# Altium footprint library SW_BTN.PcbLib: 9 footprints
Each footprint in its own frame and in the unit in brackets; x right, y up, seen from the top. Pads: shape width x height; smd on the part's side, far side on the other; paste and mask are expansions set on the pad; w line width, h text height; cw(c..) or ccw(c..) is an arc to the next point about the centre after c.
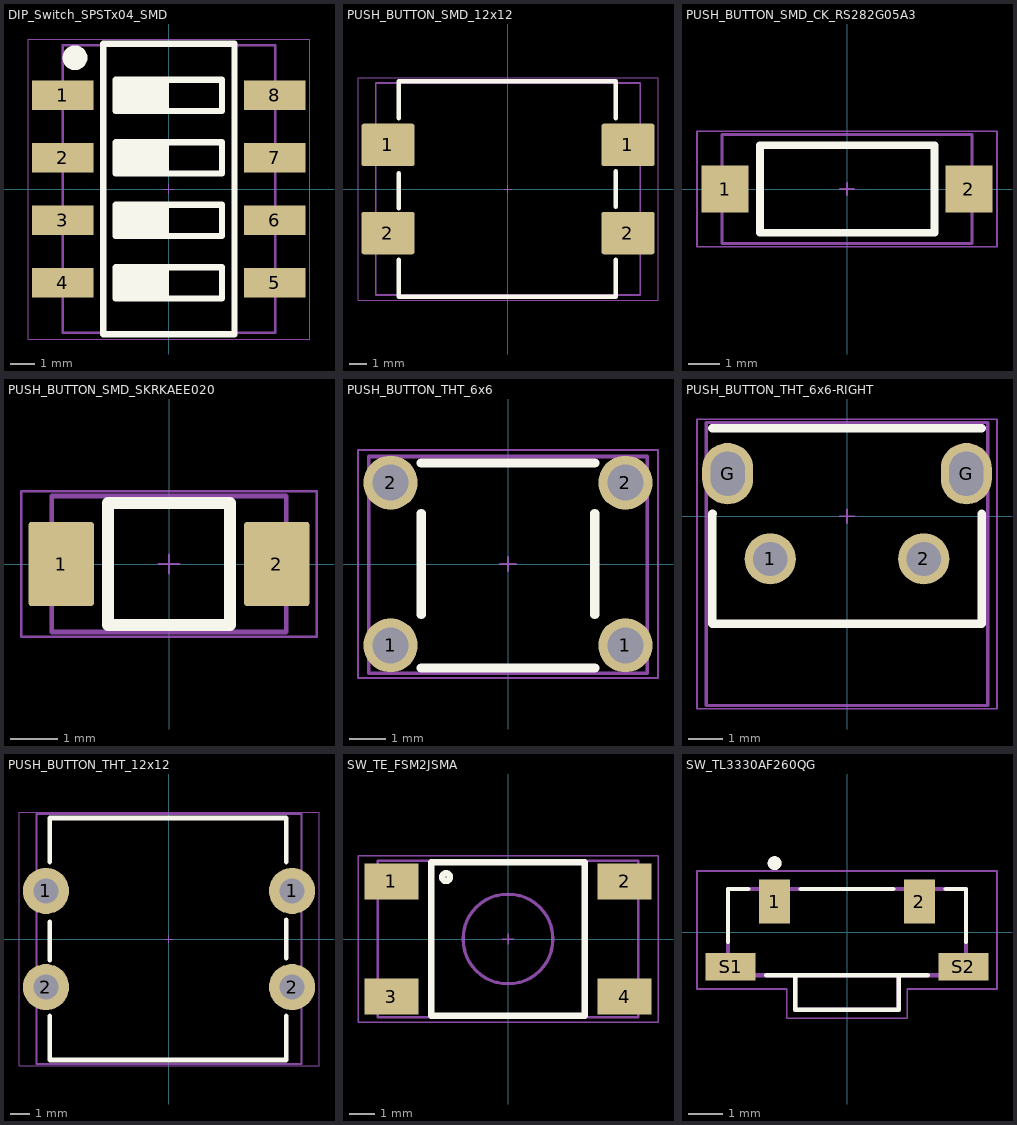
[diagram p0: the footprints below, top view; thin cyan lines are the x and y axes]

## DIP_Switch_SPSTx04_SMD [mm]
pads (8):
  rect 2.5x1.2 smd: 1(-4.305,3.81) 2(-4.305,1.27) 3(-4.305,-1.27) 4(-4.305,-3.81) 5(4.305,-3.81) 6(4.305,-1.27) 7(4.305,1.27) 8(4.305,3.81)
Top Overlay:
  circle w0.5: c-3.81,5.334 r0.254
  region: 0,4.445 -2.159,4.445 -2.159,3.175 0,3.175
  region: 0,1.905 -2.159,1.905 -2.159,0.635 0,0.635
  region: 0,-0.635 -2.159,-0.635 -2.159,-1.905 0,-1.905
  region: 0,-3.175 -2.159,-3.175 -2.159,-4.445 0,-4.445
  lines w0.254: -2.667,-5.9 2.667,-5.9 2.667,5.9 -2.667,5.9 -2.667,-5.9 ; -2.159,-4.445 2.159,-4.445 2.159,-3.175 -2.159,-3.175 -2.159,-4.445 ; -2.159,-1.905 2.159,-1.905 2.159,-0.635 -2.159,-0.635 -2.159,-1.905 ; -2.159,0.635 2.159,0.635 2.159,1.905 -2.159,1.905 -2.159,0.635 ; -2.159,3.175 2.159,3.175 2.159,4.445 -2.159,4.445 -2.159,3.175
Mechanical 1:
  lines w0.1: -4.318,-5.842 4.318,-5.842 4.318,5.842 -4.318,5.842 -4.318,-5.842
Mechanical 15:
  lines w0.05: -0.225,0 0.225,0 ; 0,-0.2 0,0.2 ; -5.715,-6.096 5.73,-6.096 5.73,6.096 -5.715,6.096 -5.715,-6.096
3D body "SW_DIP_SPSTx04_Slide_6.7x11.72mm_W8.61mm_P2.54mm_LowProfile.step": height 2.7, standoff 0, extent -4.305,-5.86 4.305,5.86

## PUSH_BUTTON_SMD_12x12 [mm]
pads (4):
  rrect10% 3x2.4 smd: 1(-6.8,2.5) 1(6.8,2.5) 2(-6.8,-2.5) 2(6.8,-2.5)
Top Overlay:
  lines w0.25: -6.2,-4 -6.2,-6.1 6.1,-6.1 6.1,-4 ; -6.2,-1.1 -6.2,0.9 ; -6.2,4 -6.2,6.1 6.1,6.1 6.1,4 ; 6.1,-1 6.1,1
Mechanical 13:
  lines w0.1: -7.5,-6 -7.5,6 7.5,6 7.5,-6 -7.5,-6
Mechanical 15:
  lines w0.05: -0.225,0 0.225,0 ; 0,-0.2 0,0.2 ; -8.5,-6.3 -8.5,6.3 8.5,6.3 8.5,-6.3 -8.5,-6.3
3D body "SW_PUSH_SMD-12mm.STEP": height 7.4, standoff -2.2, extent -7.5,-6 7.5,6

## PUSH_BUTTON_SMD_CK_RS282G05A3 [mm]
pads (2):
  rect 1.5x1.5 smd: 1(-3.9,0) 2(3.9,0)
Top Overlay:
  lines w0.25: -2.7,-1.4 -2.782,-1.4 ; -2.782,-1.4 -2.782,1.4 2.8,1.4 2.8,-1.4 -2.782,-1.4
Mechanical 13:
  lines w0.1: -4,-1.75 -4,1.75 4,1.75 4,-1.75 -4,-1.75
Mechanical 15:
  lines w0.05: -0.225,0 0.225,0 ; 0,-0.2 0,0.2 ; -4.8,-1.85 -4.8,0.6 -4.8,1.85 4.8,1.85 4.8,-1.85 -4.8,-1.85
3D body "SW_SPST_CK_RS282G05A3.step": height 2.5, standoff 0, extent -4,-1.75 4,1.75

## PUSH_BUTTON_SMD_SKRKAEE020 [mm]
pads (2):
  rrect10% 1.4x1.8 smd: 1(-2.3,0) 2(2.3,0)
Top Overlay:
  lines w0.25: -1.3,-1.3 1.3,-1.3 1.3,0.3 1.3,1.3 -1.3,1.3 -1.3,-1.3
Mechanical 13:
  lines w0.1: -2.5,-1.45 2.5,-1.45 2.5,1.45 -2.5,1.45 -2.5,-1.45
Mechanical 15:
  lines w0.05: -3.15,-0.6 -3.15,1.55 3.15,1.55 3.15,-1.55 -3.15,-1.55 -3.15,-0.575 ; -0.225,0 0.225,0 ; 0,-0.2 0,0.2
3D body "3x4x2 tact button.step": height 2, standoff 0, extent -2.5,-1.45 2.5,1.45

## PUSH_BUTTON_THT_6x6 [mm]
pads (4):
  round 1.5 hole 1: 1(-3.25,-2.25) 1(3.25,-2.25) 2(-3.25,2.25) 2(3.25,2.25)
Top Overlay:
  lines w0.25: -2.4,-2.875 2.4,-2.875 ; -2.4,-1.4 -2.4,1.4 ; -2.4,2.8 2.4,2.8 ; 2.4,-1.4 2.4,1.4
Mechanical 13:
  lines w0.1: -3.85,-3.025 3.85,-3.025 3.85,2.975 -3.85,2.975 -3.85,-3.025
Mechanical 15:
  lines w0.05: -0.225,0 0.225,0 ; 0,-0.2 0,0.2 ; -4.15,-3.15 4.15,-3.15 4.15,3.15 -3.275,3.15 -4.15,3.15 -4.15,-3.15
3D body "Push_Button_6x6.STEP": height 5.05, standoff -3.28, extent -3.846,-3.029 3.846,2.979

## PUSH_BUTTON_THT_6x6-RIGHT [mm]
pads (4):
  round 1.5 hole 1: 1(-2.25,-1.25) 2(2.25,-1.25)
  oval 1.5x1.8 hole 1 slot 1.3 at 90 deg: G(-3.5,1.25) G(3.5,1.25)
Top Overlay:
  lines w0.25: -3.95,2.575 3.95,2.575 ; -3.946,0.07 -3.95,0.07 -3.95,-3.15 3.95,-3.15 ; 3.95,-3.15 3.95,0.07
Mechanical 13:
  lines w0.1: -4.125,-5.55 -4.125,2.75 4.125,2.75 4.125,-5.55 -4.125,-5.55
Mechanical 15:
  lines w0.05: -0.225,0 0.225,0 ; 0,-0.2 0,0.2 ; -4.4,-5.65 4.4,-5.65 4.4,2.85 -4.4,2.85 -4.4,1.225 -4.4,-5.65
3D body "Push_Button_6x6_Right.STEP": height 7.1, standoff -3.5, extent -4.108,-5.55 4.11,2.75

## PUSH_BUTTON_THT_12x12 [mm]
pads (4):
  round 2.4 hole 1.3: 1(-6.4,2.5) 1(6.4,2.5) 2(-6.4,-2.5) 2(6.4,-2.5)
Top Overlay:
  lines w0.25: -6.2,-4 -6.2,-6.3 6.1,-6.3 6.1,-4 ; -6.2,-1.1 -6.2,0.9 ; -6.2,4 -6.2,6.3 6.1,6.3 6.1,4 ; 6.1,-1 6.1,1
Mechanical 13:
  lines w0.1: -6.9,-6.5 -6.9,6.5 6.9,6.5 6.9,-6.5 -6.9,-6.5
Mechanical 15:
  lines w0.05: -0.225,0 0.225,0 ; 0,-0.2 0,0.2 ; -7.8,-6.6 7.8,-6.6 7.8,6.6 -7.8,6.6 -7.8,-6.6
3D body "12mm Push Button with Cap.STEP": height 12.3, standoff -3.7, extent -6.85,-6.5 6.85,6.5

## SW_TE_FSM2JSMA [mm]
pads (4):
  rect 2.1x1.4 smd: 1(-4.55,2.25) 2(4.55,2.25) 3(-4.55,-2.25) 4(4.55,-2.25)
Top Overlay:
  circle w0.25: c-2.413,2.413 r0.15
  lines w0.25: -3,-3 3,-3 3,3 -3,3 -3,-3
Mechanical 13:
  circle w0.127: c0,0 r1.75
  lines w0.1: -5.08,-3.048 5.08,-3.048 5.08,3.048 -5.08,3.048 -5.08,-3.048
Mechanical 15:
  lines w0.05: -0.225,0 0.225,0 ; 0,-0.2 0,0.2 ; -5.85,-3.25 5.85,-3.25 5.85,3.25 -5.85,3.25 -5.85,-3.25
3D body "step_temp.STEP": height 4.59, standoff 0, extent -5,-3 5,3

## SW_TL3330AF260QG [mm]
height 3.4
pads (4):
  rect 0.9x1.27 smd: 1(-2.1,0.885) 2(2.1,0.885)
  rect 1.45x0.8 smd: S1(-3.375,-1) S2(3.375,-1)
Top Overlay:
  circle w0.2: c-2.1,2 r0.1
  lines w0.127: -3.45,-0.286 -3.45,1.25 -2.863,1.25 ; -2.337,-1.25 -1.5,-1.25 ; -1.336,1.25 1.336,1.25 ; 2.337,-1.25 1.5,-1.25 ; 2.863,1.25 3.45,1.25 3.45,-0.286 ; -1.5,-1.25 1.5,-1.25 ; -1.5,-1.25 -1.5,-2.25 1.5,-2.25 1.5,-1.25
Mechanical 13:
  circle w0.2: c-2.1,2 r0.1
  lines w0.127: -1.5,-1.25 -3.45,-1.25 -3.45,1.25 3.45,1.25 3.45,-1.25 1.5,-1.25 ; -1.5,-1.25 1.5,-1.25 ; -1.5,-1.25 -1.5,-2.25 1.5,-2.25 1.5,-1.25
Mechanical 15:
  lines w0.05: -4.35,-1.65 -4.35,1.77 4.35,1.77 4.35,-1.65 1.75,-1.65 1.75,-2.5 -1.75,-2.5 -1.75,-1.65 -4.35,-1.65
3D body "step_temp.STEP": height 3.5, standoff 0, extent -3.9,-2.25 3.9,1.259